# EAGLE library part MB8431P (library micro-fujitsu)
MICROCONTROLLER/MEMORY DEVICE
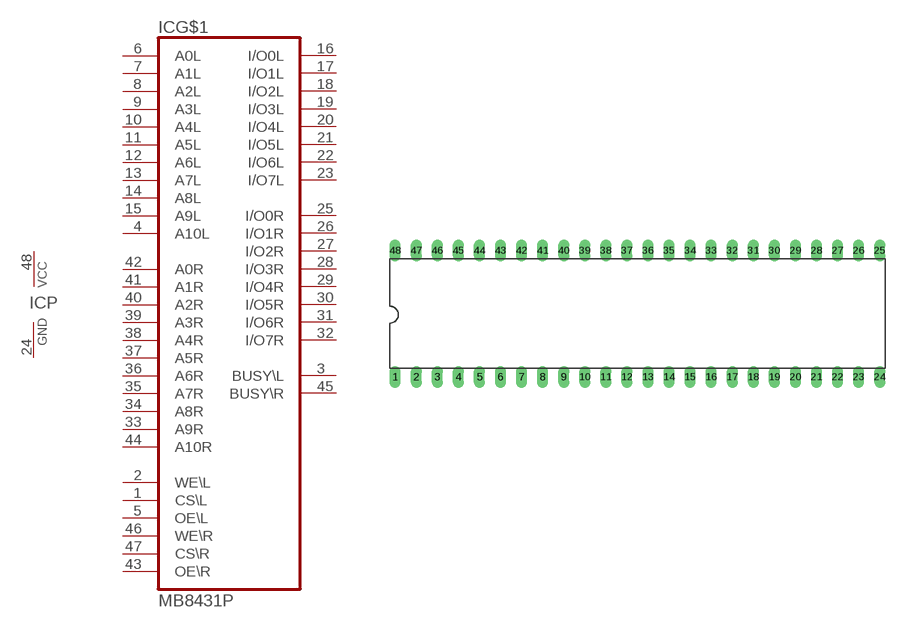
[diagram p67: symbol with the pads of DIL48; footprint DIL48]

Designator prefix IC; gates G$1=MB8431 P=VCC-GND

## MB8431P  [DIL48]
1  G$1:CS\L  in
2  G$1:WE\L  in
3  G$1:BUSY\L  out
4  G$1:A10L  in
5  G$1:OE\L  in
6  G$1:A0L  in
7  G$1:A1L  in
8  G$1:A2L  in
9  G$1:A3L  in
10  G$1:A4L  in
11  G$1:A5L  in
12  G$1:A6L  in
13  G$1:A7L  in
14  G$1:A8L  in
15  G$1:A9L  in
16  G$1:I/O0L
17  G$1:I/O1L
18  G$1:I/O2L
19  G$1:I/O3L
20  G$1:I/O4L
21  G$1:I/O5L
22  G$1:I/O6L
23  G$1:I/O7L
24  P:GND  pwr
25  G$1:I/O0R
26  G$1:I/O1R
27  G$1:I/O2R
28  G$1:I/O3R
29  G$1:I/O4R
30  G$1:I/O5R
31  G$1:I/O6R
32  G$1:I/O7R
33  G$1:A9R  in
34  G$1:A8R  in
35  G$1:A7R  in
36  G$1:A6R  in
37  G$1:A5R  in
38  G$1:A4R  in
39  G$1:A3R  in
40  G$1:A2R  in
41  G$1:A1R  in
42  G$1:A0R  in
43  G$1:OE\R  in
44  G$1:A10R  in
45  G$1:BUSY\R  out
46  G$1:WE\R  in
47  G$1:CS\R  in
48  P:VCC  pwr

## Footprint DIL48 (pad centres in mm)
Dual In Line Package
drill 0.813 long: 1 -29.21,-7.62; 2 -26.67,-7.62; 3 -24.13,-7.62; 4 -21.59,-7.62; 5 -19.05,-7.62; 6 -16.51,-7.62; 7 -13.97,-7.62; 8 -11.43,-7.62; 9 -8.89,-7.62; 10 -6.35,-7.62; 11 -3.81,-7.62; 12 -1.27,-7.62; 13 1.27,-7.62; 14 3.81,-7.62; 15 6.35,-7.62; 16 8.89,-7.62; 17 11.43,-7.62; 18 13.97,-7.62; 19 16.51,-7.62; 20 19.05,-7.62; 21 21.59,-7.62; 22 24.13,-7.62; 23 26.67,-7.62; 24 29.21,-7.62; 25 29.21,7.62; 26 26.67,7.62; 27 24.13,7.62; 28 21.59,7.62; 29 19.05,7.62; 30 16.51,7.62; 31 13.97,7.62; 32 11.43,7.62; 33 8.89,7.62; 34 6.35,7.62; 35 3.81,7.62; 36 1.27,7.62; 37 -1.27,7.62; 38 -3.81,7.62; 39 -6.35,7.62; 40 -8.89,7.62; 41 -11.43,7.62; 42 -13.97,7.62; 43 -16.51,7.62; 44 -19.05,7.62; 45 -21.59,7.62; 46 -24.13,7.62; 47 -26.67,7.62; 48 -29.21,7.62